# Altium schematic symbol library cd4047.SchLib: 1 symbol
Pins are listed as number, name and electrical type; pins without a type are passive.

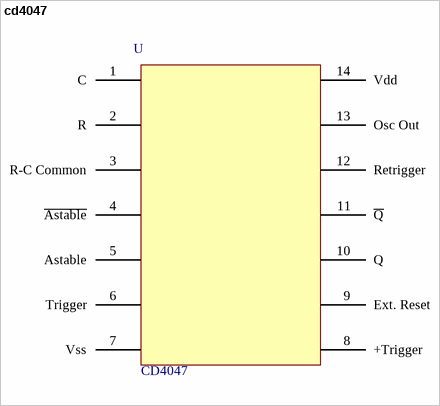
[diagram p0: symbol cd4047]

## cd4047
designator U  value CD4047  (hidden comment: *)
Manufacturer: Texax Instruments; Manufacturer Code: CD4047BE; Comments: CMOS Low-Power  Monostable/Astable Multivibrator; Farnell Code: 1106105
footprint SOIC-14 (Footprint not found)
pins: 1 C, 2 R, 3 R-C Common, 4 ~{Astable}, 5 Astable, 6 Trigger, 7 Vss, 8 +Trigger, 9 Ext. Reset, 10 Q, 11 ~{Q}, 12 Retrigger, 13 Osc Out, 14 Vdd